# EAGLE library part 74*375 (library 74ttl-din)
4-bit bistable LATCH
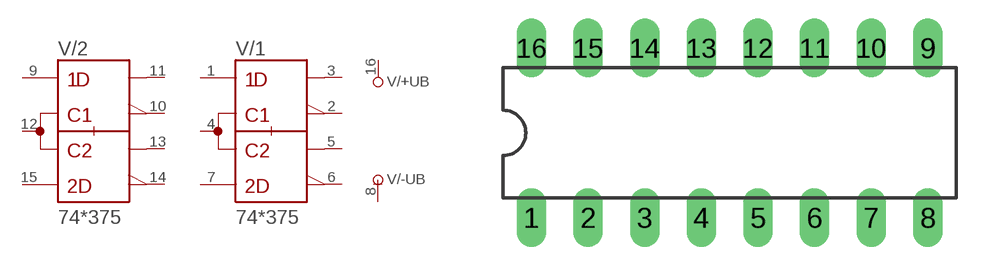
[diagram p59: symbol with the pads of DIL16; footprint DIL16]

Designator prefix V; gates /+UB=+UB /-UB=-UB /1=375 /2=375

## 74375N  [DIL16]
1  /1:1D  in
2  /1:!1Q  out
3  /1:1Q  out
4  /1:1C,2C  in
5  /1:2Q  out
6  /1:!2Q  out
7  /1:2D  in
8  /-UB:-UB  pwr
9  /2:1D  in
10  /2:!1Q  out
11  /2:1Q  out
12  /2:1C,2C  in
13  /2:2Q  out
14  /2:!2Q  out
15  /2:2D  in
16  /+UB:+UB  pwr

## Footprint DIL16 (pad centres in mm)
Dual In Line Package
drill 0.813 long: 1 -8.89,-3.81; 2 -6.35,-3.81; 3 -3.81,-3.81; 4 -1.27,-3.81; 5 1.27,-3.81; 6 3.81,-3.81; 7 6.35,-3.81; 8 8.89,-3.81; 9 8.89,3.81; 10 6.35,3.81; 11 3.81,3.81; 12 1.27,3.81; 13 -1.27,3.81; 14 -3.81,3.81; 15 -6.35,3.81; 16 -8.89,3.81